# EAGLE library part TS3USB221A-Q1 (library ts_kb_mcu)
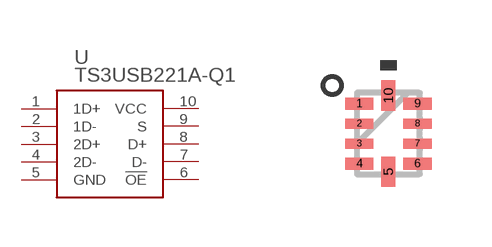
[diagram p6: symbol with the pads of RSE10; footprint RSE10]

Designator prefix U

## TS3USB221A-Q1 (COPYRIGHT: Copyright (C) 2023 Ultra Librarian. All rights reserved.; MANUFACTURER_PART_NUMBER: TS3USB221AQRSERQ1; MFR_NAME: Texas Instruments)  [RSE10]
1  1D+  pas
2  1D-  pas
3  2D+  pas
4  2D-  pas
5  GND  pwr
6  !OE  pas
7  D-  pas
8  D+  pas
9  S  pas
10  VCC  pwr

## Footprint RSE10 (pad centres in mm)
smd 0.705 x 0.3: 1 -0.727,0.75; 4 -0.727,-0.75; 6 0.727,-0.75; 9 0.727,0.75
smd 0.705 x 0.25: 2 -0.727,0.25; 3 -0.727,-0.25; 7 0.727,-0.25; 8 0.727,0.25
smd 0.35 x 0.755: 5 0,-0.952; 10 0,0.952